# Altium footprint library STM32CoreBoard.PcbLib: 20 footprints (part 2 of 2)
Each footprint in its own frame and in the unit in brackets; x right, y up, seen from the top. Pads: shape width x height; smd on the part's side, far side on the other; paste and mask are expansions set on the pad; w line width, h text height; cw(c..) or ccw(c..) is an arc to the next point about the centre after c.
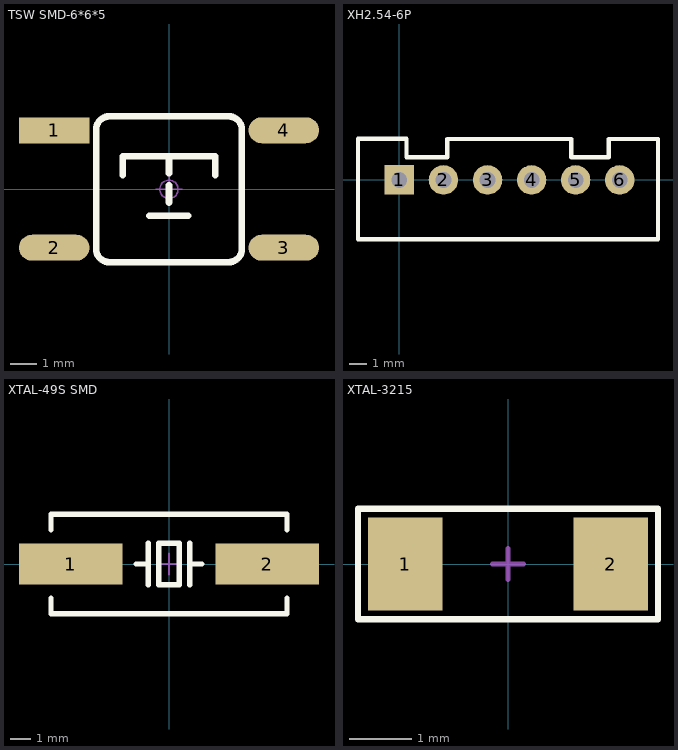
[diagram p1: the footprints below, top view; thin cyan lines are the x and y axes]

## TSW SMD-6*6*5 [mm]
pads (4):
  rect 2.7x1 smd: 1(-4.4,2.261)
  oval 2.7x1 smd: 2(-4.4,-2.239) 3(4.4,-2.239) 4(4.4,2.261)
Top Overlay:
  lines w0.254: -1.778,0.533 -1.778,1.27 1.778,1.27 1.778,0.533 ; -0.762,-1.016 0.737,-1.016 ; 0,-0.508 0,0.152 ; 0,0.61 0,1.27 ; -2.794,-2.286 ccw(c-2.286,-2.286) -2.286,-2.794 2.286,-2.794 ccw(c2.286,-2.286) 2.794,-2.286 2.794,2.286 ccw(c2.286,2.286) 2.286,2.794 -2.286,2.794 ccw(c-2.286,2.286) -2.794,2.286 -2.794,-2.286
Mechanical 15:
  circle w0.05: c0,0 r0.35
  lines w0.05: -0.5,0 0.5,0 ; 0,-0.5 0,0.5
3D body: height 5.95, standoff -0.03, extent -4.5,-3 4.5,3

## XH2.54-6P [mm]
pads (6):
  rect 1.7x1.7 hole 0.9: 1(0,0)
  round 1.7 hole 0.9: 2(2.54,0) 3(5.08,0) 4(7.62,0) 5(10.16,0) 6(12.7,0)
Top Overlay:
  lines w0.254: -2.388,-3.429 14.91,-3.429 14.91,2.362 12.065,2.362 12.065,1.321 9.906,1.321 9.906,2.362 2.769,2.362 2.769,1.321 0.406,1.321 0.406,2.388 -2.388,2.388 -2.388,-3.429
3D body: height 7.03, standoff -2.47, extent -2.5,-3.3 15.2,2.4

## XTAL-49S SMD [mm]
pads (2):
  rect 5x2 smd: 1(-4.75,0) 2(4.75,0)
Top Overlay:
  lines w0.254: -5.7,-1.65 -5.7,-2.4 5.7,-2.4 5.7,-1.65 ; -5.7,1.65 -5.7,2.4 5.7,2.4 5.7,1.65 ; -1.6,0 -1,0 ; -1,-1 -1,1 ; 1,-1 1,1 ; 1,0 1.6,0 ; -0.5,-1 -0.5,1 0.5,1 0.5,-1 -0.5,-1
Mechanical 15:
  lines w0.076: -0.508,0 0.508,0 ; 0,-0.508 0,0.508
3D body: height 4, standoff 0, extent -6.7,-2.462 6.7,2.438

## XTAL-3215 [mm]
pads (2):
  rect 1.2x1.5 smd: 1(-1.65,0) 2(1.65,0)
Top Overlay:
  lines w0.1: -2.413,-0.889 2.413,-0.889 2.413,0.889 -2.413,0.889 -2.413,-0.889
Mechanical 15:
  lines w0.076: -0.254,0 0.254,0 ; 0,-0.254 0,0.254
3D body: height 0.81, standoff 0, extent -1.6,-0.75 1.6,0.75